# EAGLE library part INA181A1 (library HelaTronix - IC Special Functions)
SOT-23-6 Bi-Directional Current-Sensing Amplifier
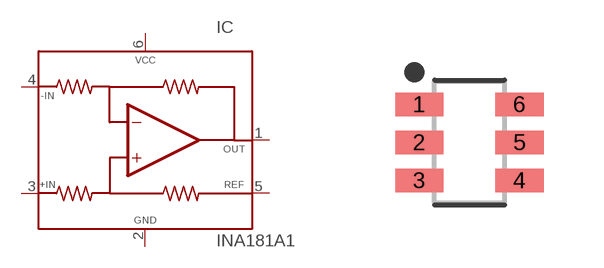
[diagram p5: symbol with the pads of SOT95P280X145-6N; footprint SOT95P280X145-6N]

Designator prefix IC

## INA181A1 (LCSC#: C2058943; LCSC_LINK: https://lcsc.com/product-detail/Current-Sensing-Amplifiers_Texas-Instruments-INA181A1IDBVR_C2058943.html; MANUFACTURER: Texas Instruments; MFR#: INA181A1IDBVR)  [SOT95P280X145-6N]
1  OUT  out
2  GND  pwr
3  +IN  in
4  -IN  in
5  REF  in
6  VCC  pwr

## Footprint SOT95P280X145-6N (pad centres in mm)
6-SOT23, 0.95 mm pitch, 2.80 mm span, 2.90 X 1.60 X 1.45 mm body 6-pin SOT23 package with 0.95 mm pitch, 2.80 mm span with body size 2.90 X 1.60 X 1.45 mm
smd 1.209 x 0.589: 1 -1.253,0.95; 2 -1.253,0; 3 -1.253,-0.95; 4 1.253,-0.95; 5 1.253,0; 6 1.253,0.95